# EAGLE library part AM29F016 (library Chip_AM29F016)
4-Megabit FLASH MEMORY (512 K x 8 bit/256 K x 16 bit) 5 V-only
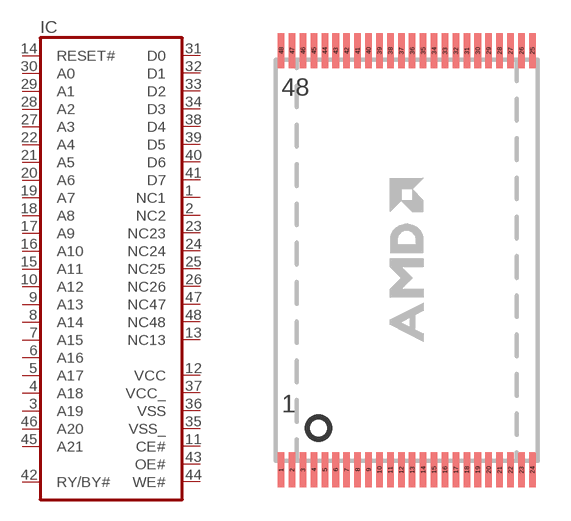
[diagram p0: symbol with the pads of TSOP48; footprint TSOP48]

Designator prefix IC

## AM29F016  [TSOP48]
1  NC1  hiz
2  NC2  hiz
3  A19  hiz
4  A18  hiz
5  A17  in
6  A16  in
7  A15  in
8  A14  in
9  A13  in
10  A12  in
11  CE#  in
12  VCC  hiz
13  NC13  hiz
14  RESET#  in
15  A11  in
16  A10  in
17  A9  in
18  A8  in
19  A7  in
20  A6  in
21  A5  in
22  A4  in
23  NC23  hiz
24  NC24  hiz
25  NC25  hiz
26  NC26  hiz
27  A3  in
28  A2  in
29  A1  in
30  A0  in
31  D0  hiz
32  D1  hiz
33  D2  hiz
34  D3  hiz
35  VSS_  hiz
36  VSS  hiz
37  VCC_  hiz
38  D4  hiz
39  D5  hiz
40  D6  hiz
41  D7  hiz
42  RY/BY#  out
43  OE#  in
44  WE#  in
45  A21  hiz
46  A20  hiz
47  NC47  hiz
48  NC48  hiz

## Footprint TSOP48 (pad centres in mm)
Thin Small Outline Plastic Package
smd 0.3 x 1.6: 1 -5.75,-9.6; 2 -5.25,-9.6; 3 -4.75,-9.6; 4 -4.25,-9.6; 5 -3.75,-9.6; 6 -3.25,-9.6; 7 -2.75,-9.6; 8 -2.25,-9.6; 9 -1.75,-9.6; 10 -1.25,-9.6; 11 -0.75,-9.6; 12 -0.25,-9.6; 13 0.25,-9.6; 14 0.75,-9.6; 15 1.25,-9.6; 16 1.75,-9.6; 17 2.25,-9.6; 18 2.75,-9.6; 19 3.25,-9.6; 20 3.75,-9.6; 21 4.25,-9.6; 22 4.75,-9.6; 23 5.25,-9.6; 24 5.75,-9.6; 25 5.75,9.6; 26 5.25,9.6; 27 4.75,9.6; 28 4.25,9.6; 29 3.75,9.6; 30 3.25,9.6; 31 2.75,9.6; 32 2.25,9.6; 33 1.75,9.6; 34 1.25,9.6; 35 0.75,9.6; 36 0.25,9.6; 37 -0.25,9.6; 38 -0.75,9.6; 39 -1.25,9.6; 40 -1.75,9.6; 41 -2.25,9.6; 42 -2.75,9.6; 43 -3.25,9.6; 44 -3.75,9.6; 45 -4.25,9.6; 46 -4.75,9.6; 47 -5.25,9.6; 48 -5.75,9.6